# Altium schematic symbol library Transformer.SchLib: 8 symbols
Pins are listed as number, name and electrical type; pins without a type are passive.

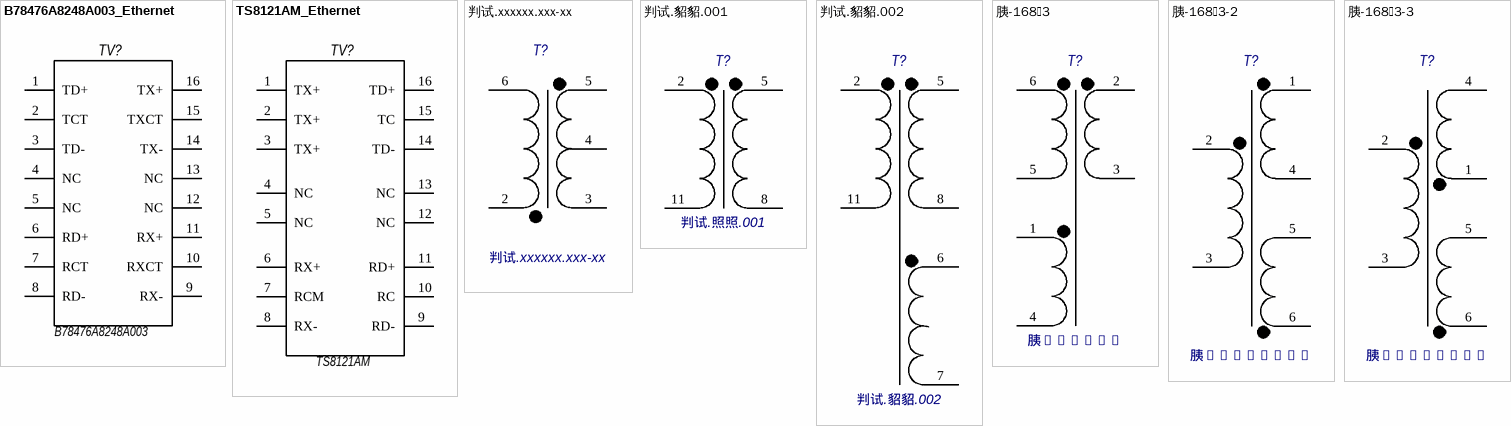
[diagram p0: symbols B78476A8248A003_Ethernet to 胰-168�3-3]

## B78476A8248A003_Ethernet
designator TV?, comment Type: B78476A8248A003  (hidden comment: 10/100 Base-T magnetics module)
footprint B78476A8248A003_Ethernet (B78476A8248A003)
pins: 1 TD+, 2 TCT, 3 TD-, 4 NC, 5 NC, 6 RD+, 7 RCT, 8 RD-, 9 RX-, 10 RXCT, 11 RX+, 12 NC, 13 NC, 14 TX-, 15 TXCT, 16 TX+

## TS8121AM_Ethernet
designator TV?  Type: TS8121AM  (hidden comment: TS8121AM_Ethernet)
footprint SOIC-16N (SOIC, 16-Leads, Body 12,80x6,90mm, Pitch 1,27mm, IPC Medium Density)
pins: 1 TX+, 2 TX+, 3 TX+, 4 NC, 5 NC, 6 RX+, 7 RCM, 8 RX-, 9 RD-, 10 RC, 11 RD+, 12 NC, 13 NC, 14 TD-, 15 TC, 16 TD+

## 判试.xxxxxx.xxx-xx
designator T?
footprint RM6-B65808-N1006
pins: 2, 3, 4, 5, 6

## 判试.貂貂.001
designator T?  Type: 判试.照照.001  (hidden comment: *)
footprint RM10-B65814-N1008D002
pins: 2, 5, 8, 11

## 判试.貂貂.002
designator T?  Type: 判试.貂貂.002  (hidden comment: *)
footprint RM10-B65814-N1008D002
pins: 2, 5, 6, 7, 8, 11

## 胰-168�3
designator T?  Type: 胰-168�3  (hidden comment: *)
footprint RM6-B65808-N1006
footprint RM6-B65808-N1006
pins: 1, 2, 3, 4, 5, 6

## 胰-168�3-2
designator T?  Type: 胰-168�3-2  (hidden comment: *)
footprint RM6-B65808-N1006
footprint RM6-B65808-N1006
pins: 1, 2, 3, 4, 5, 6

## 胰-168�3-3
designator T?  Type: 胰-168�3-3  (hidden comment: *)
footprint RM6-B65808-N1006
footprint RM6-B65808-N1006
pins: 1, 2, 3, 4, 5, 6